# Altium schematic symbol library MCP1642D-50I_MS.SchLib: 1 symbol
Pins are listed as number, name and electrical type; pins without a type are passive.

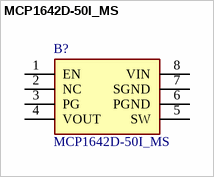
[diagram p0: symbol MCP1642D-50I_MS]

## MCP1642D-50I_MS
designator B?
Switching Voltage Regulators Step-up DC/DC Reg 1 MHz, 1.6A, 5Vout; Manufacturer_Name: Microchip; Manufacturer_Part_Number: MCP1642D-50I/MS; Geometry.Height: 1.1mm; Mouser Part Number: 579-MCP1642D-50I/MS; Mouser Price/Stock: https://www.mouser.co.uk/ProductDetail/Microchip-Technology-Atmel/MCP1642D-50I-MS?qs=kUzwwg2uGjVoXH8JFWZOdQ%3D%3D; Datasheet Link: http://www.microchip.com/mymicrochip/filehandler.aspx?ddocname=en572899
footprint SOP65P490X110-8N
pins: 1 EN, 2 NC, 3 PG, 4 VOUT, 5 SW, 6 PGND, 7 SGND, 8 VIN